# EAGLE library part IRF8306MTRPBF (library circuit_tree)
IC
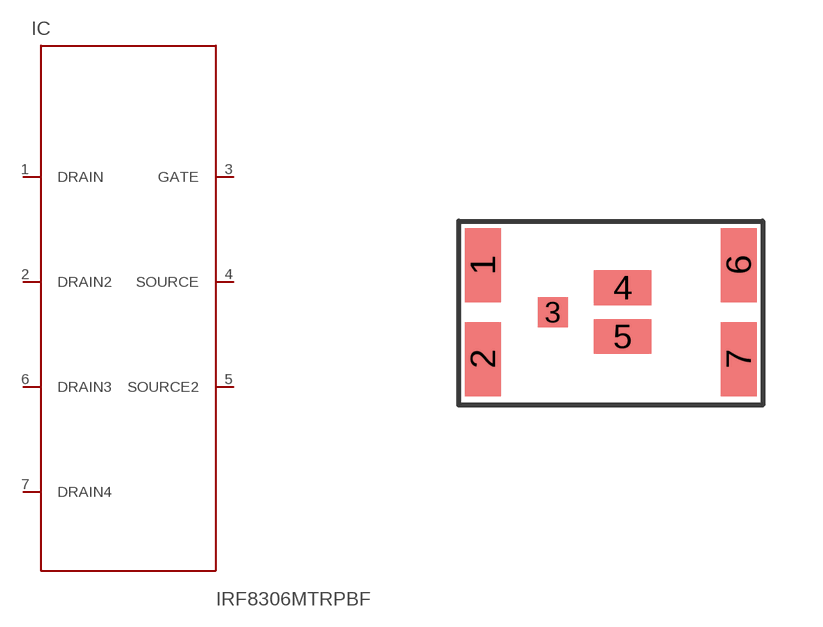
[diagram p6: symbol with the pads of IRF8306MTRPBF; footprint IRF8306MTRPBF]

Designator prefix IC

## IRF8306MTRPBF  [IRF8306MTRPBF]
1  DRAIN  pas
2  DRAIN2  pas
3  GATE  pas
4  SOURCE  pas
5  SOURCE2  pas
6  DRAIN3  pas
7  DRAIN4  pas

## Footprint IRF8306MTRPBF (pad centres in mm)
Small Outline Transistor Reflow soldering INFINEON, www.infineon.com/cmc_upload/0/000/010/257/eh_db_5b.pdf
smd 0.9 x 1.85: 1 0,0; 2 0,-2.35; 6 6.4,0; 7 6.4,-2.35
smd 0.75 x 0.75: 3 1.75,-1.175
smd 1.45 x 0.87: 4 3.5,-0.565; 5 3.5,-1.785